# Altium footprint library IDTILab.PcbLib: 105 footprints (part 4 of 7)
Each footprint in its own frame and in the unit in brackets; x right, y up, seen from the top. Pads: shape width x height; smd on the part's side, far side on the other; paste and mask are expansions set on the pad; w line width, h text height; cw(c..) or ccw(c..) is an arc to the next point about the centre after c.
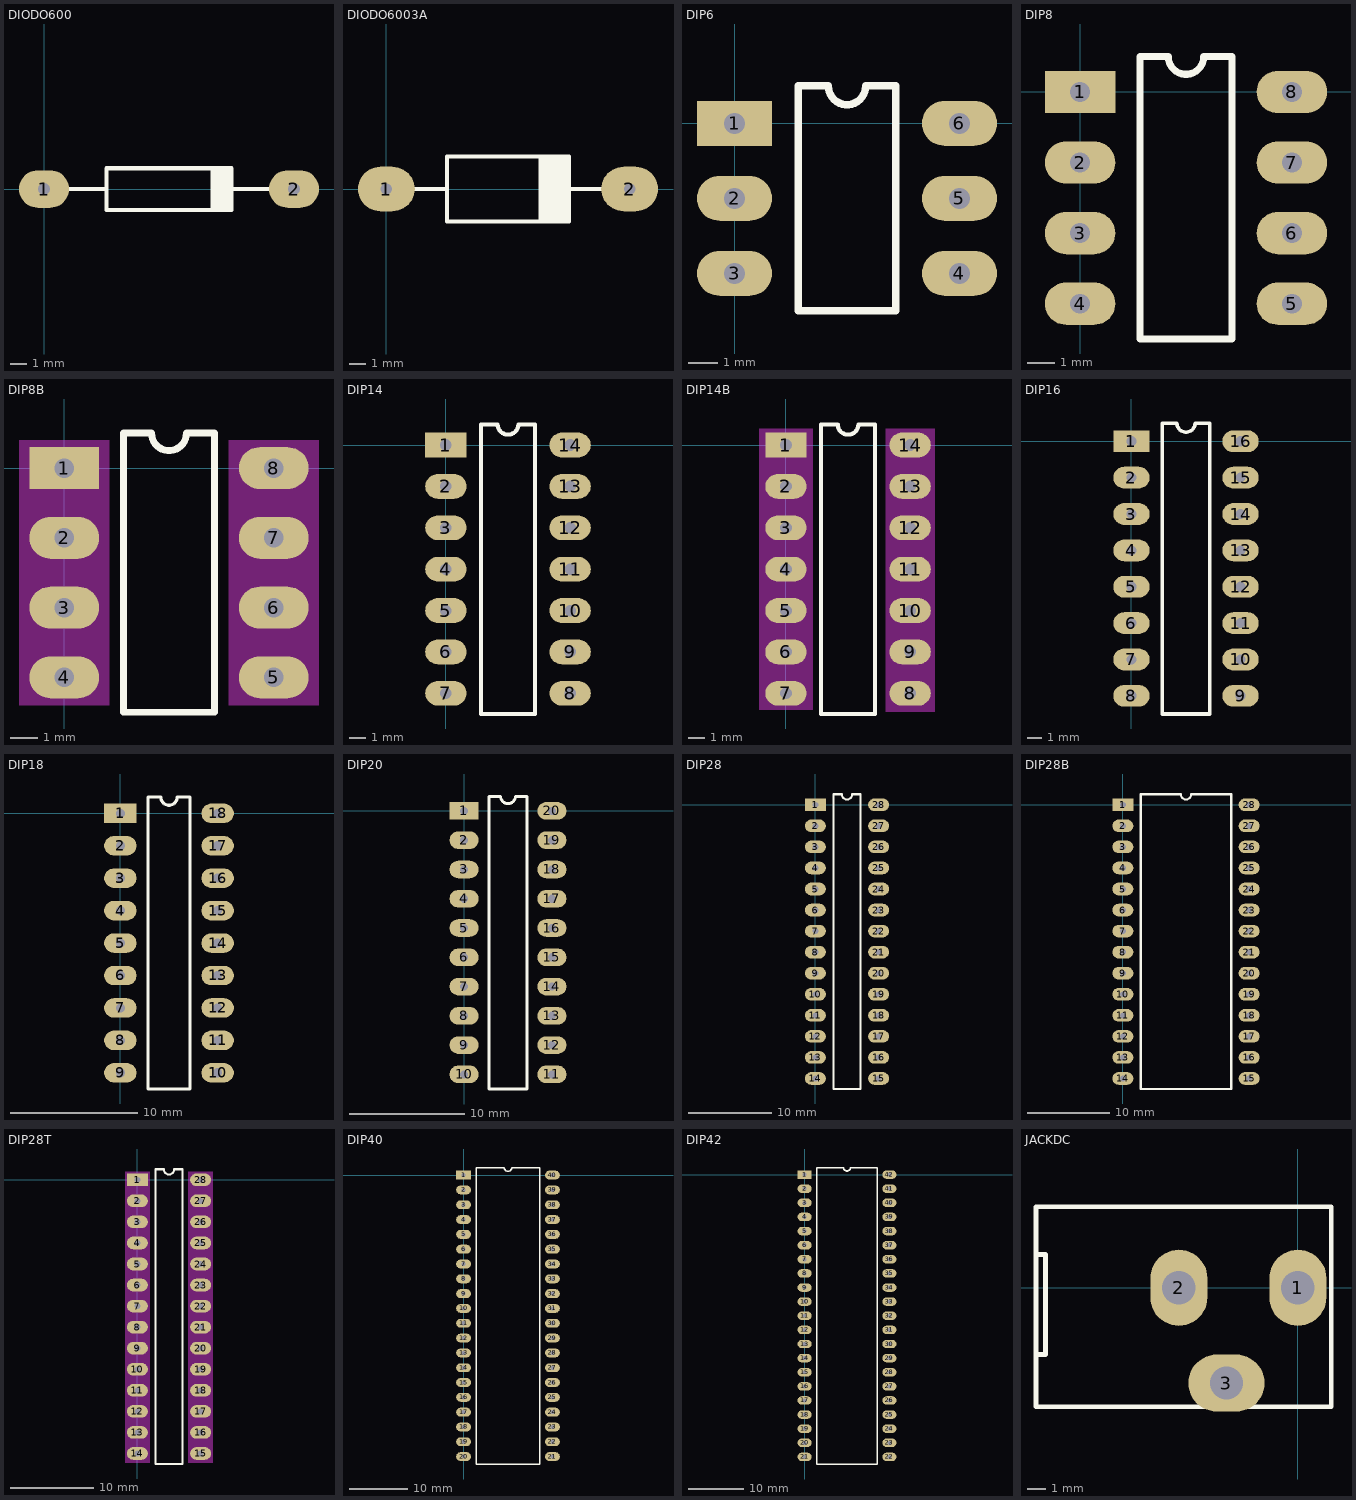
[diagram p3: the footprints below, top view; thin cyan lines are the x and y axes]

## DIODO600 [mil]
pads (2):
  oval 120x90 hole 28: 1(0,0) 2(600,0)
Top Overlay:
  rectangle: 400,-50 450,50
  lines w10: 0,0 150,0 ; 600,0 450,0 ; 150,0 150,50 450,50 450,0 ; 150,0 150,-50 450,-50 450,0

## DIODO6003A [mil]
pads (2):
  oval 140x110 hole 28: 1(0,0) 2(600,0)
Top Overlay:
  rectangle: 375,-80 450,80
  lines w10: 0,0 150,0 ; 600,0 450,0 ; 150,0 150,-80 450,-80 450,0 ; 150,0 150,80 450,80 450,0

## DIP6 [mil]
pads (6):
  rect 100x60 hole 28: 1(0,0)
  oval 100x60 hole 28: 2(0,-100) 3(0,-200) 4(300,-200) 5(300,-100) 6(300,0)
Top Overlay:
  lines w10: 85,-250 215,-250 215,50 175,50 cw(c150,50) 125,50 85,50 85,-250

## DIP8 [mil]
pads (8):
  rect 100x60 hole 28: 1(0,0)
  oval 100x60 hole 28: 2(0,-100) 3(0,-200) 4(0,-300) 5(300,-300) 6(300,-200) 7(300,-100) 8(300,0)
Top Overlay:
  lines w10: 85,-350 215,-350 215,50 175,50 cw(c150,50) 125,50 85,50 85,-350

## DIP8B [mil] "Top layer bloqueada"
pads (8):
  rect 100x60 hole 28: 1(0,0)
  oval 100x60 hole 28: 2(0,-100) 3(0,-200) 4(0,-300) 5(300,-300) 6(300,-200) 7(300,-100) 8(300,0)
Top Layer keep-out:
  rectangle: 235,-340 365,40
  rectangle: -65,-340 65,40
Top Overlay:
  lines w10: 85,-350 215,-350 215,50 175,50 cw(c150,50) 125,50 85,50 85,-350

## DIP14 [mil]
pads (14):
  rect 100x60 hole 28: 1(0,0)
  oval 100x60 hole 28: 2(0,-100) 3(0,-200) 4(0,-300) 5(0,-400) 6(0,-500) 7(0,-600) 8(300,-600) 9(300,-500) 10(300,-400) 11(300,-300) 12(300,-200) 13(300,-100) 14(300,0)
Top Overlay:
  lines w10: 85,-650 215,-650 215,50 175,50 cw(c150,50) 125,50 85,50 85,-650

## DIP14B [mil] "DIP14 con top layer bloqueado"
pads (14):
  rect 100x60 hole 28: 1(0,0)
  oval 100x60 hole 28: 2(0,-100) 3(0,-200) 4(0,-300) 5(0,-400) 6(0,-500) 7(0,-600) 8(300,-600) 9(300,-500) 10(300,-400) 11(300,-300) 12(300,-200) 13(300,-100) 14(300,0)
Top Layer keep-out:
  rectangle: -65,-640 65,40
  rectangle: 240,-645 360,40
Top Overlay:
  lines w10: 85,-650 85,50 125,50 ccw(c150,50) 175,50 215,50 215,-650 85,-650

## DIP16 [mil]
pads (16):
  rect 100x60 hole 28: 1(0,0)
  oval 100x60 hole 28: 2(0,-100) 3(0,-200) 4(0,-300) 5(0,-400) 6(0,-500) 7(0,-600) 8(0,-700) 9(300,-700) 10(300,-600) 11(300,-500) 12(300,-400) 13(300,-300) 14(300,-200) 15(300,-100) 16(300,0)
Top Overlay:
  lines w10: 85,-750 215,-750 215,50 175,50 cw(c150,50) 125,50 85,50 85,-750

## DIP18 [mil]
pads (18):
  rect 100x60 hole 28: 1(0,0)
  oval 100x60 hole 28: 2(0,-100) 3(0,-200) 4(0,-300) 5(0,-400) 6(0,-500) 7(0,-600) 8(0,-700) 9(0,-800) 10(300,-800) 11(300,-700) 12(300,-600) 13(300,-500) 14(300,-400) 15(300,-300) 16(300,-200) 17(300,-100) 18(300,0)
Top Overlay:
  lines w10: 85,-850 215,-850 215,50 175,50 cw(c150,50) 125,50 85,50 85,-850

## DIP20 [mil]
pads (20):
  rect 100x60 hole 28: 1(0,0)
  oval 100x60 hole 28: 2(0,-100) 3(0,-200) 4(0,-300) 5(0,-400) 6(0,-500) 7(0,-600) 8(0,-700) 9(0,-800) 10(0,-900) 11(300,-900) 12(300,-800) 13(300,-700) 14(300,-600) 15(300,-500) 16(300,-400) 17(300,-300) 18(300,-200) 19(300,-100) 20(300,0)
Top Overlay:
  lines w10: 85,-950 215,-950 215,50 175,50 cw(c150,50) 125,50 85,50 85,-950

## DIP28 [mil]
pads (28):
  rect 100x60 hole 28: 1(0,0)
  oval 100x60 hole 28: 2(0,-100) 3(0,-200) 4(0,-300) 5(0,-400) 6(0,-500) 7(0,-600) 8(0,-700) 9(0,-800) 10(0,-900) 11(0,-1000) 12(0,-1100) 13(0,-1200) 14(0,-1300) 15(300,-1300) 16(300,-1200) 17(300,-1100) 18(300,-1000) 19(300,-900) 20(300,-800) 21(300,-700) 22(300,-600) 23(300,-500) 24(300,-400) 25(300,-300) 26(300,-200) 27(300,-100) 28(300,0)
Top Overlay:
  lines w10: 85,-1350 215,-1350 215,50 175,50 cw(c150,50) 125,50 85,50 85,-1350

## DIP28B [mil]
pads (28):
  rect 100x60 hole 28: 1(0,0)
  oval 100x60 hole 28: 2(0,-100) 3(0,-200) 4(0,-300) 5(0,-400) 6(0,-500) 7(0,-600) 8(0,-700) 9(0,-800) 10(0,-900) 11(0,-1000) 12(0,-1100) 13(0,-1200) 14(0,-1300) 15(600,-1300) 16(600,-1200) 17(600,-1100) 18(600,-1000) 19(600,-900) 20(600,-800) 21(600,-700) 22(600,-600) 23(600,-500) 24(600,-400) 25(600,-300) 26(600,-200) 27(600,-100) 28(600,0)
Top Overlay:
  lines w10: 85,-1350 515,-1350 515,50 325,50 cw(c300,50) 275,50 85,50 85,-1350

## DIP28T [mil] "DIP28 CON TOP LAYER BLOQUEADA"
pads (28):
  rect 100x60 hole 28: 1(0,0)
  oval 100x60 hole 28: 2(0,-100) 3(0,-200) 4(0,-300) 5(0,-400) 6(0,-500) 7(0,-600) 8(0,-700) 9(0,-800) 10(0,-900) 11(0,-1000) 12(0,-1100) 13(0,-1200) 14(0,-1300) 15(300,-1300) 16(300,-1200) 17(300,-1100) 18(300,-1000) 19(300,-900) 20(300,-800) 21(300,-700) 22(300,-600) 23(300,-500) 24(300,-400) 25(300,-300) 26(300,-200) 27(300,-100) 28(300,0)
Top Layer keep-out:
  rectangle: 240,-1345 360,40
  rectangle: -60,-1345 60,40
Top Overlay:
  lines w10: 85,-1350 215,-1350 215,50 175,50 cw(c150,50) 125,50 85,50 85,-1350

## DIP40 [mil]
pads (40):
  rect 100x60 hole 28: 1(0,0)
  oval 100x60 hole 28: 2(0,-100) 3(0,-200) 4(0,-300) 5(0,-400) 6(0,-500) 7(0,-600) 8(0,-700) 9(0,-800) 10(0,-900) 11(0,-1000) 12(0,-1100) 13(0,-1200) 14(0,-1300) 15(0,-1400) 16(0,-1500) 17(0,-1600) 18(0,-1700) 19(0,-1800) 20(0,-1900) 21(600,-1900) 22(600,-1800) 23(600,-1700) 24(600,-1600) 25(600,-1500) 26(600,-1400) 27(600,-1300) 28(600,-1200) 29(600,-1100) 30(600,-1000) 31(600,-900) 32(600,-800) 33(600,-700) 34(600,-600) 35(600,-500) 36(600,-400) 37(600,-300) 38(600,-200) 39(600,-100) 40(600,0)
Top Overlay:
  lines w10: 85,-1950 85,50 275,50 ccw(c300,50) 325,50 515,50 515,-1950 85,-1950

## DIP42 [mil]
pads (42):
  rect 100x60 hole 28: 1(0,0)
  oval 100x60 hole 28: 2(0,-100) 3(0,-200) 4(0,-300) 5(0,-400) 6(0,-500) 7(0,-600) 8(0,-700) 9(0,-800) 10(0,-900) 11(0,-1000) 12(0,-1100) 13(0,-1200) 14(0,-1300) 15(0,-1400) 16(0,-1500) 17(0,-1600) 18(0,-1700) 19(0,-1800) 20(0,-1900) 21(0,-2000) 22(600,-2000) 23(600,-1900) 24(600,-1800) 25(600,-1700) 26(600,-1600) 27(600,-1500) 28(600,-1400) 29(600,-1300) 30(600,-1200) 31(600,-1100) 32(600,-1000) 33(600,-900) 34(600,-800) 35(600,-700) 36(600,-600) 37(600,-500) 38(600,-400) 39(600,-300) 40(600,-200) 41(600,-100) 42(600,0)
Top Overlay:
  lines w10: 85,-2050 85,50 275,50 ccw(c300,50) 325,50 515,50 515,-2050 85,-2050

## JACKDC [mil]
pads (3):
  oval 120x160 hole 70: 1(0,0) 2(-250,0)
  oval 160x120 hole 70: 3(-150,-200)
Top Overlay:
  lines w10: -550,-140 -530,-140 -530,70 -550,70 ; -550,-250 70,-250 70,0 70,170 -550,170 -550,-250